# Altium schematic symbol library panasonic-potentiometer.SchLib: 1 symbol
Pins are listed as number, name and electrical type; pins without a type are passive.

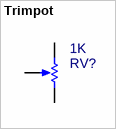
[diagram p0: symbol Trimpot]

## Trimpot
designator RV?  value 1K  (hidden comment: *)
Trimmer Potentiometer; package: EVND2A; PN: *; ExtraInfo: *
footprint EVND2A (Crbon Composition Trimmer Potentiometer - Side-adjust)
footprint EVML1G (Ceramic Substrate Trimmer Potentiometer - Side-adjust)
pins: 1, 2, 3